# Altium schematic symbol library PIC24 Lib.SchLib: 2 symbols
Pins are listed as number, name and electrical type; pins without a type are passive.

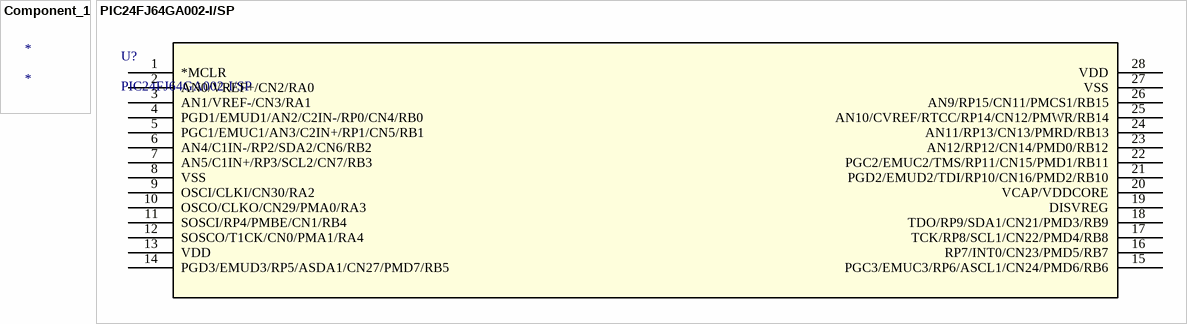
[diagram p0: symbols Component_1 to PIC24FJ64GA002-I/SP]

## Component_1
designator *

## PIC24FJ64GA002-I/SP
designator U?
No Description Available; Vendor: Microchip; Built_By: EMA_Jessica; SourceLibrary: Microchip_2019-08-23_10; Manufacturer_Part_Number: PIC24FJ64GA002-I/SP; Copyright: Copyright (C) 2018 Accelerated Designs. All rights reserved; RefDes: RefDes; Type: DEV
footprint SPDIP28_300MC_MCH
pins: 1 *MCLR, 2 AN0/VREF+/CN2/RA0, 3 AN1/VREF-/CN3/RA1, 4 PGD1/EMUD1/AN2/C2IN-/RP0/CN4/RB0, 5 PGC1/EMUC1/AN3/C2IN+/RP1/CN5/RB1, 6 AN4/C1IN-/RP2/SDA2/CN6/RB2, 7 AN5/C1IN+/RP3/SCL2/CN7/RB3, 8 VSS, 9 OSCI/CLKI/CN30/RA2, 10 OSCO/CLKO/CN29/PMA0/RA3, 11 SOSCI/RP4/PMBE/CN1/RB4, 12 SOSCO/T1CK/CN0/PMA1/RA4, 13 VDD, 14 PGD3/EMUD3/RP5/ASDA1/CN27/PMD7/RB5, 15 PGC3/EMUC3/RP6/ASCL1/CN24/PMD6/RB6, 16 RP7/INT0/CN23/PMD5/RB7, 17 TCK/RP8/SCL1/CN22/PMD4/RB8, 18 TDO/RP9/SDA1/CN21/PMD3/RB9, 19 DISVREG, 20 VCAP/VDDCORE, 21 PGD2/EMUD2/TDI/RP10/CN16/PMD2/RB10, 22 PGC2/EMUC2/TMS/RP11/CN15/PMD1/RB11, 23 AN12/RP12/CN14/PMD0/RB12, 24 AN11/RP13/CN13/PMRD/RB13, 25 AN10/CVREF/RTCC/RP14/CN12/PMWR/RB14, 26 AN9/RP15/CN11/PMCS1/RB15, 27 VSS, 28 VDD